# EAGLE library part ATMEGA2560-16AU (library inker_super_board_parts)
ATMEGA2560-16AU, 8 bit AVR Microcontroller 16MHz 4, 256kb Flash, 8kb RAM, I2C SPI 100-Pin TQFP Source: Datasheet <http://docs-emea.rs-online.com/webdocs/0d68/0900766b80d68730.pdf>
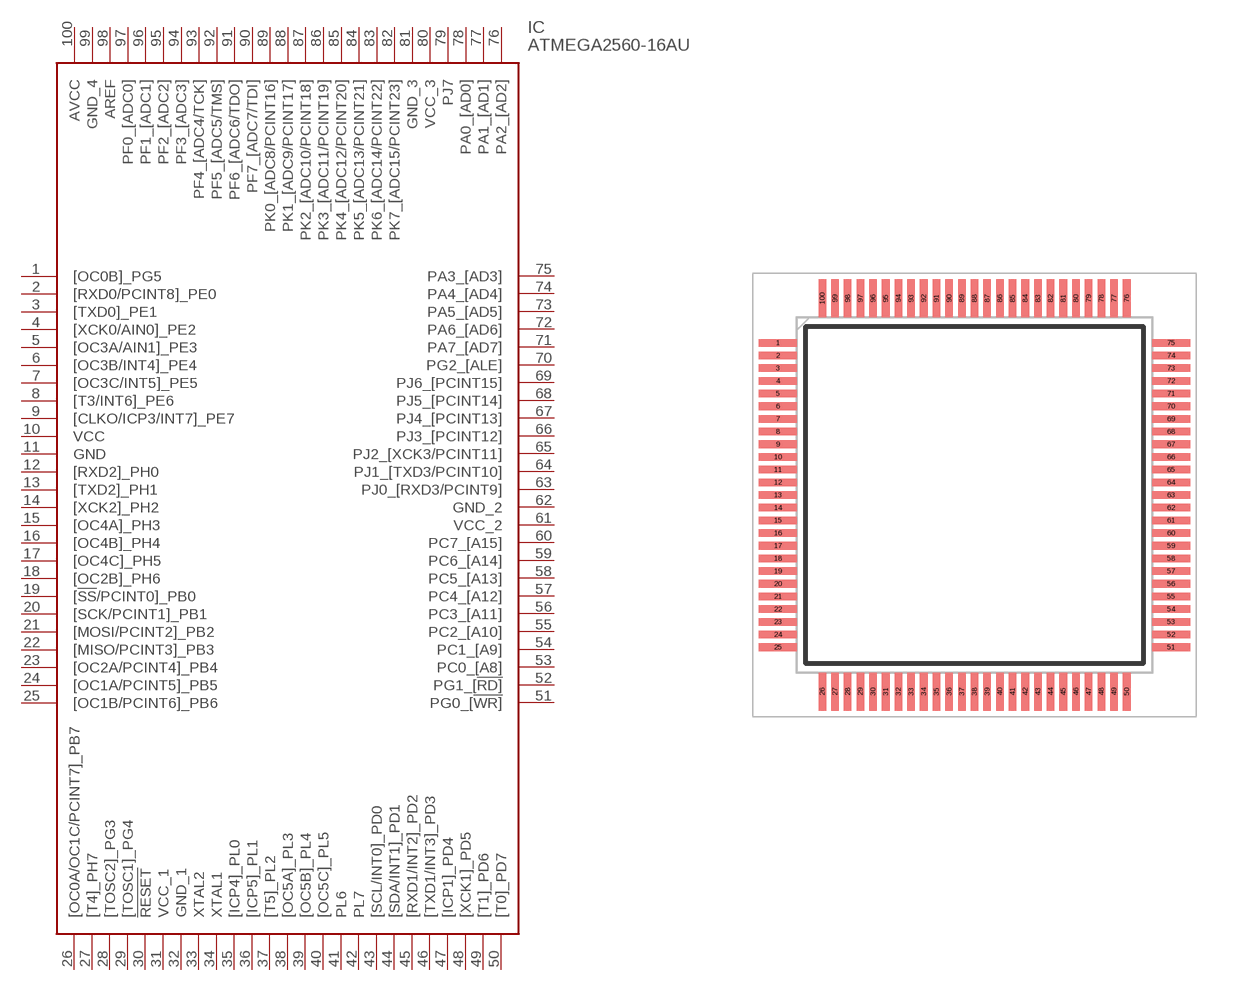
[diagram p6: symbol with the pads of QFP50P1600X1600X120-100N; footprint QFP50P1600X1600X120-100N]

Designator prefix IC

## ATMEGA2560-16AU (DESCRIPTION: ATMEGA2560-16AU, 8 bit AVR Microcontroller 16MHz 4, 256kb Flash, 8kb RAM, I2C SPI 100-Pin TQFP; MANUFACTURER_NAME: Microchip; MANUFACTURER_PART_NUMBER: ATMEGA2560-16AU)  [QFP50P1600X1600X120-100N]
1  [OC0B]_PG5
2  [RXD0/PCINT8]_PE0  in
3  [TXD0]_PE1
4  [XCK0/AIN0]_PE2  in
5  [OC3A/AIN1]_PE3  in
6  [OC3B/INT4]_PE4  in
7  [OC3C/INT5]_PE5  in
8  [T3/INT6]_PE6  in
9  [CLKO/ICP3/INT7]_PE7  out
10  VCC  pwr
11  GND  pwr
12  [RXD2]_PH0
13  [TXD2]_PH1
14  [XCK2]_PH2
15  [OC4A]_PH3
16  [OC4B]_PH4
17  [OC4C]_PH5
18  [OC2B]_PH6
19  [!SS!/PCINT0]_PB0  in
20  [SCK/PCINT1]_PB1  in
21  [MOSI/PCINT2]_PB2  in
22  [MISO/PCINT3]_PB3  in
23  [OC2A/PCINT4]_PB4  in
24  [OC1A/PCINT5]_PB5  in
25  [OC1B/PCINT6]_PB6  in
26  [OC0A/OC1C/PCINT7]_PB7  in
27  [T4]_PH7
28  [TOSC2]_PG3
29  [TOSC1]_PG4
30  !RESET
31  VCC_1  pwr
32  GND_1  pwr
33  XTAL2
34  XTAL1
35  [ICP4]_PL0
36  [ICP5]_PL1
37  [T5]_PL2
38  [OC5A]_PL3
39  [OC5B]_PL4
40  [OC5C]_PL5
41  PL6
42  PL7
43  [SCL/INT0]_PD0  in
44  [SDA/INT1]_PD1  in
45  [RXD1/INT2]_PD2  in
46  [TXD1/INT3]_PD3  in
47  [ICP1]_PD4
48  [XCK1]_PD5
49  [T1]_PD6
50  [T0]_PD7
51  PG0_[!WR]
52  PG1_[!RD]
53  PC0_[A8]
54  PC1_[A9]
55  PC2_[A10]
56  PC3_[A11]
57  PC4_[A12]
58  PC5_[A13]
59  PC6_[A14]
60  PC7_[A15]
61  VCC_2  pwr
62  GND_2  pwr
63  PJ0_[RXD3/PCINT9]  in
64  PJ1_[TXD3/PCINT10]  in
65  PJ2_[XCK3/PCINT11]  in
66  PJ3_[PCINT12]  in
67  PJ4_[PCINT13]  in
68  PJ5_[PCINT14]  in
69  PJ6_[PCINT15]  in
70  PG2_[ALE]
71  PA7_[AD7]
72  PA6_[AD6]
73  PA5_[AD5]
74  PA4_[AD4]
75  PA3_[AD3]
76  PA2_[AD2]
77  PA1_[AD1]
78  PA0_[AD0]
79  PJ7
80  VCC_3  pwr
81  GND_3  pwr
82  PK7_[ADC15/PCINT23]  in
83  PK6_[ADC14/PCINT22]  in
84  PK5_[ADC13/PCINT21]  in
85  PK4_[ADC12/PCINT20]  in
86  PK3_[ADC11/PCINT19]  in
87  PK2_[ADC10/PCINT18]  in
88  PK1_[ADC9/PCINT17]  in
89  PK0_[ADC8/PCINT16]  in
90  PF7_[ADC7/TDI]
91  PF6_[ADC6/TDO]
92  PF5_[ADC5/TMS]
93  PF4_[ADC4/TCK]
94  PF3_[ADC3]
95  PF2_[ADC2]
96  PF1_[ADC1]
97  PF0_[ADC0]
98  AREF  in
99  GND_4  pwr
100  AVCC  pwr

## Footprint QFP50P1600X1600X120-100N (pad centres in mm)
TQFP 100A
smd 1.5 x 0.3: 1 -7.75,6; 2 -7.75,5.5; 3 -7.75,5; 4 -7.75,4.5; 5 -7.75,4; 6 -7.75,3.5; 7 -7.75,3; 8 -7.75,2.5; 9 -7.75,2; 10 -7.75,1.5; 11 -7.75,1; 12 -7.75,0.5; 13 -7.75,0; 14 -7.75,-0.5; 15 -7.75,-1; 16 -7.75,-1.5; 17 -7.75,-2; 18 -7.75,-2.5; 19 -7.75,-3; 20 -7.75,-3.5; 21 -7.75,-4; 22 -7.75,-4.5; 23 -7.75,-5; 24 -7.75,-5.5; 25 -7.75,-6; 51 7.75,-6; 52 7.75,-5.5; 53 7.75,-5; 54 7.75,-4.5; 55 7.75,-4; 56 7.75,-3.5; 57 7.75,-3; 58 7.75,-2.5; 59 7.75,-2; 60 7.75,-1.5; 61 7.75,-1; 62 7.75,-0.5; 63 7.75,0; 64 7.75,0.5; 65 7.75,1; 66 7.75,1.5; 67 7.75,2; 68 7.75,2.5; 69 7.75,3; 70 7.75,3.5; 71 7.75,4; 72 7.75,4.5; 73 7.75,5; 74 7.75,5.5; 75 7.75,6
smd 0.3 x 1.5: 26 -6,-7.75; 27 -5.5,-7.75; 28 -5,-7.75; 29 -4.5,-7.75; 30 -4,-7.75; 31 -3.5,-7.75; 32 -3,-7.75; 33 -2.5,-7.75; 34 -2,-7.75; 35 -1.5,-7.75; 36 -1,-7.75; 37 -0.5,-7.75; 38 0,-7.75; 39 0.5,-7.75; 40 1,-7.75; 41 1.5,-7.75; 42 2,-7.75; 43 2.5,-7.75; 44 3,-7.75; 45 3.5,-7.75; 46 4,-7.75; 47 4.5,-7.75; 48 5,-7.75; 49 5.5,-7.75; 50 6,-7.75; 76 6,7.75; 77 5.5,7.75; 78 5,7.75; 79 4.5,7.75; 80 4,7.75; 81 3.5,7.75; 82 3,7.75; 83 2.5,7.75; 84 2,7.75; 85 1.5,7.75; 86 1,7.75; 87 0.5,7.75; 88 0,7.75; 89 -0.5,7.75; 90 -1,7.75; 91 -1.5,7.75; 92 -2,7.75; 93 -2.5,7.75; 94 -3,7.75; 95 -3.5,7.75; 96 -4,7.75; 97 -4.5,7.75; 98 -5,7.75; 99 -5.5,7.75; 100 -6,7.75